# EAGLE library part LM324 (library Orlando)
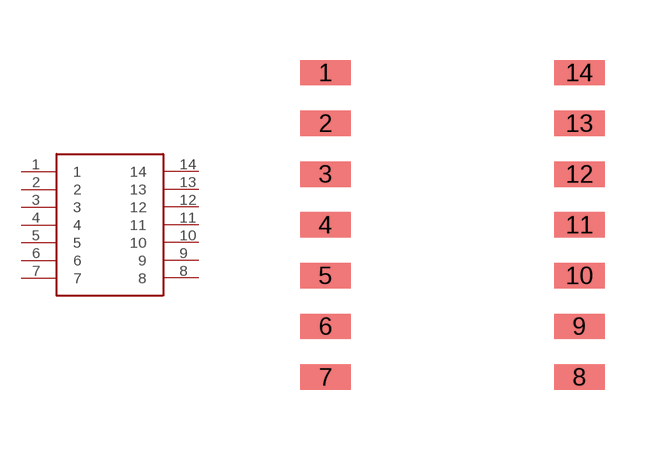
[diagram p19: symbol with the pads of LM324; footprint LM324]

Designator prefix -

## LM324  [LM324]
1  1
2  2
3  3
4  4
5  5
6  6
7  7
8  8
9  9
10  10
11  11
12  12
13  13
14  14

## Footprint LM324 (pad centres in mm)
smd 1.27 x 0.635: 1 -3.81,2.54; 2 -3.81,1.27; 3 -3.81,0; 4 -3.81,-1.27; 5 -3.81,-2.54; 6 -3.81,-3.81; 7 -3.81,-5.08; 8 2.54,-5.08; 9 2.54,-3.81; 10 2.54,-2.54; 11 2.54,-1.27; 12 2.54,0; 13 2.54,1.27; 14 2.54,2.54